# Altium schematic symbol library LM7805CTG.SCHLIB: 1 symbol
Pins are listed as number, name and electrical type; pins without a type are passive.

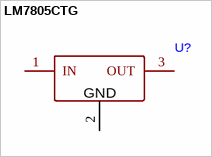
[diagram p0: symbol LM7805CTG]

## LM7805CTG
designator U?
footprint TO-220-3_L10.2-W4.5-P2.54-L
pins: 1 IN, 2 GND, 3 OUT